# Altium footprint library 3296W1125LF.PcbLib: 1 footprints
Each footprint in its own frame and in the unit in brackets; x right, y up, seen from the top. Pads: shape width x height; smd on the part's side, far side on the other; paste and mask are expansions set on the pad; w line width, h text height; cw(c..) or ccw(c..) is an arc to the next point about the centre after c.
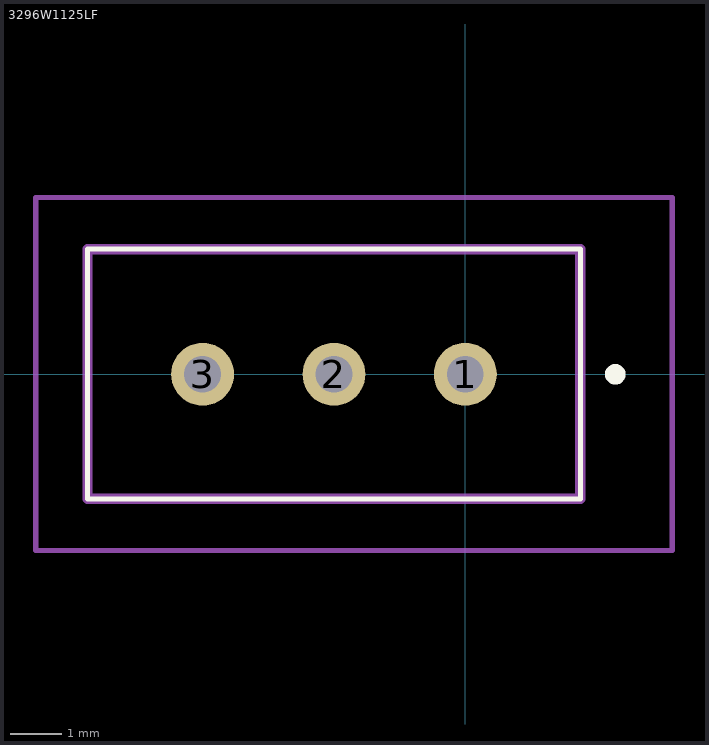
[diagram p0: the footprint, top view; thin cyan lines are the x and y axes]

## 3296W1125LF [mm]
pads (3):
  round 1.217 hole 0.71: 1(0,0) 2(-2.54,0) 3(-5.08,0)
Top Overlay:
  lines w0.1: -7.305,-2.41 2.225,-2.41 2.225,2.42 -7.305,2.42 -7.305,-2.41
  lines w0.2: 2.8,0 cw(c2.9,0) 3,0 ; 2.8,0 2.8,0 ; 2.8,0 ccw(c2.9,0) 3,0 ; 3,0 3,0
Mechanical 15:
  lines w0.2: -7.305,-2.41 2.225,-2.41 2.225,2.42 -7.305,2.42 -7.305,-2.41
Mechanical 20:
  lines w0.1: -8.305,-3.41 4,-3.41 4,3.42 -8.305,3.42 -8.305,-3.41